# EAGLE library part ALI-RJ45_SEM_LAYOUT (library AliExpressRJ45)
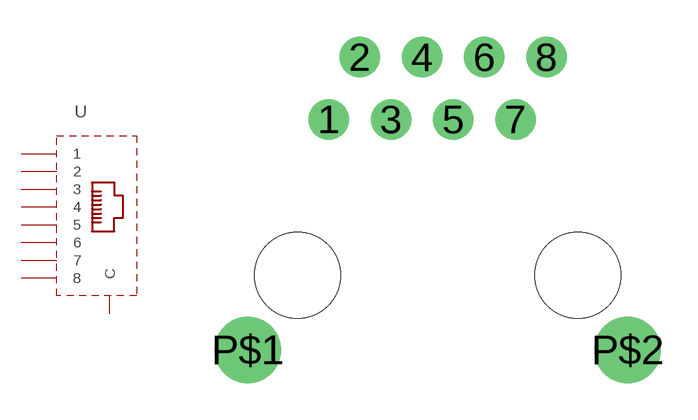
[diagram p1: symbol with the pads of ALI-RJ45_SEM_LAYOUT; footprint ALI-RJ45_SEM_LAYOUT]

Designator prefix -

## ALI-RJ45_SEM_LAYOUT  [ALI-RJ45_SEM_LAYOUT]
1  1
2  2
3  3
4  4
5  5
6  6
7  7
8  8
P$1  C
P$2  C

## Footprint ALI-RJ45_SEM_LAYOUT (pad centres in mm)
drill 1.1: 1 -4.445,6.35; 2 -3.175,8.89; 3 -1.905,6.35; 4 -0.635,8.89; 5 0.635,6.35; 6 1.905,8.89; 7 3.175,6.35; 8 4.445,8.89
drill 1.8: P$1 -7.75,-3.05; P$2 7.75,-3.05
hole 3.5 at -5.715,0
hole 3.5 at 5.715,0